# Altium integrated library IMU.IntLib: 1 symbol
Pins are listed as number, name and electrical type; pins without a type are passive.

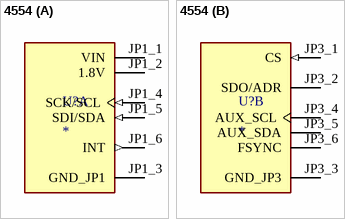
[diagram p0: symbol 4554]

## 4554
designator U?
Multiple Function Sensor Development Tools Adafruit TDK InvenSense ICM-20948 9-DoF IMU (MPU-9250 Upgrade) - STEMMA QT / Qwiic; MP: 4554; Availability: In Stock; Value: *; Check_prices: https://www.snapeda.com/parts/4554/Adafruit+Industries/view-part/?ref=eda; Package: None; Price: None; SnapEDA_Link: https://www.snapeda.com/parts/4554/Adafruit+Industries/view-part/?ref=snap; Purchase-URL: https://pricing.snapeda.com/search/part/4554/?ref=eda; MF: Adafruit
footprint MODULE_4554
part A pins: JP1_1 VIN (power), JP1_2 1.8V (power), JP1_3 GND_JP1 (power), JP1_4 SCK/SCL (in), JP1_5 SDI/SDA (in), JP1_6 INT (out)
part B pins: JP3_1 CS (in), JP3_2 SDO/ADR, JP3_3 GND_JP3 (power), JP3_4 AUX_SCL, JP3_5 AUX_SDA, JP3_6 FSYNC